# EAGLE library part CL3641B (library dragberry)
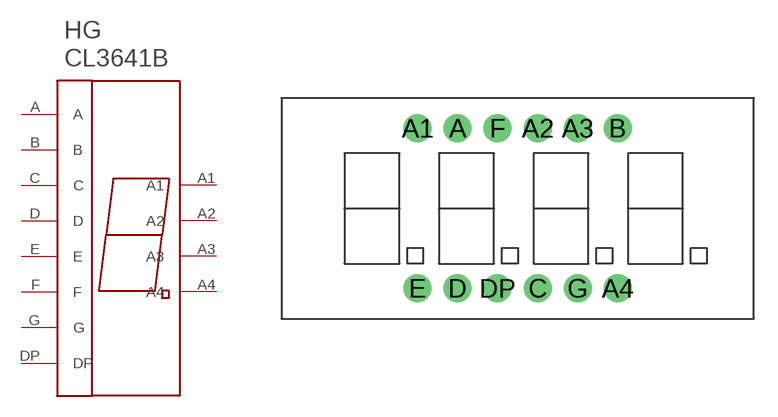
[diagram p0: symbol with the pads of CL3641B; footprint CL3641B]

Designator prefix HG

## CL3641B  [CL3641B]
A  A  out
A1  A1  in
A2  A2  in
A3  A3  in
A4  A4  in
B  B  out
C  C  out
D  D  out
DP  DP  out
E  E  out
F  F  out
G  G  out

## Footprint CL3641B (pad centres in mm)
drill 0.8 pad 1.778: A -3.81,5.08; A1 -6.35,5.08; A2 1.27,5.08; A3 3.81,5.08; A4 6.35,-5.08; B 6.35,5.08; C 1.27,-5.08; D -3.81,-5.08; DP -1.27,-5.08; E -6.35,-5.08; F -1.27,5.08; G 3.81,-5.08